# EAGLE library part IC_TR_ARRAY_8P_POSIN_SINK (library mylib_20130829)
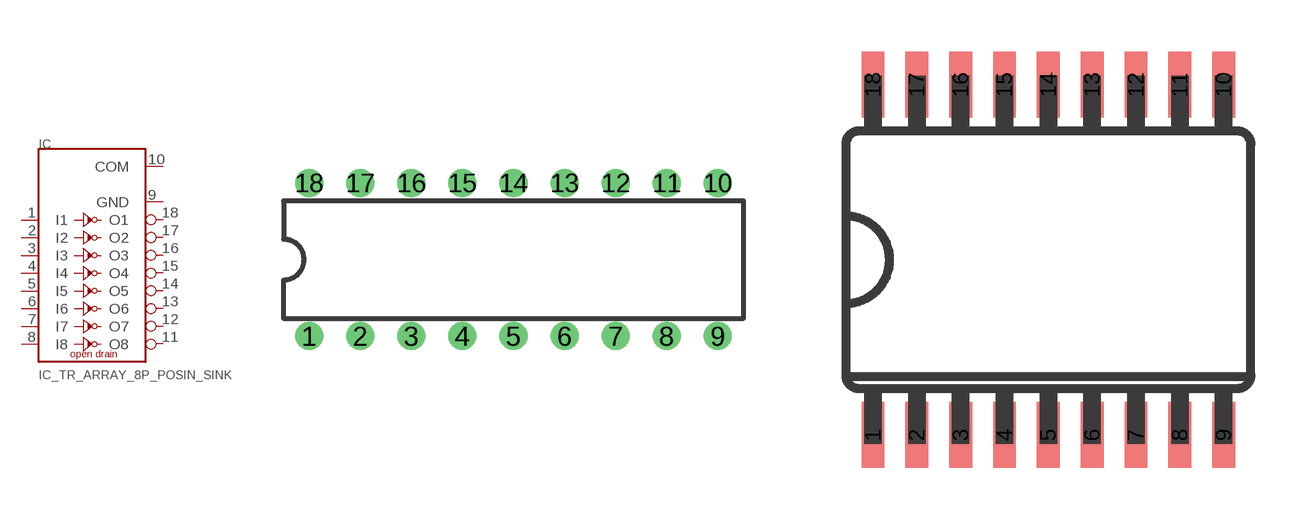
[diagram p29: symbol with the pads of IC_SOCKET_DIL_18; footprints IC_SOCKET_DIL_18, IC_18_1.27_300MIL]

Designator prefix IC

## IC_TR_ARRAY_8P_POSIN_SINKD  [IC_SOCKET_DIL_18]
1  I1
2  I2
3  I3
4  I4
5  I5
6  I6
7  I7
8  I8
9  GND  pwr
10  COM  pwr
11  O8
12  O7
13  O6
14  O5
15  O4
16  O3
17  O2
18  O1

## IC_TR_ARRAY_8P_POSIN_SINKSO  [IC_18_1.27_300MIL]
Pads as for IC_SOCKET_DIL_18

## Footprint IC_SOCKET_DIL_18 (pad centres in mm)
Dual In Line Package
drill 0.889: 1 -10.16,-3.81; 2 -7.62,-3.81; 3 -5.08,-3.81; 4 -2.54,-3.81; 5 0,-3.81; 6 2.54,-3.81; 7 5.08,-3.81; 8 7.62,-3.81; 9 10.16,-3.81; 10 10.16,3.81; 11 7.62,3.81; 12 5.08,3.81; 13 2.54,3.81; 14 0,3.81; 15 -2.54,3.81; 16 -5.08,3.81; 17 -7.62,3.81; 18 -10.16,3.81

## Footprint IC_18_1.27_300MIL (pad centres in mm)
smd 0.66 x 1.905: 1 -5.08,-5.08; 2 -3.81,-5.08; 3 -2.54,-5.08; 4 -1.27,-5.08; 5 0,-5.08; 6 1.27,-5.08; 7 2.54,-5.08; 8 3.81,-5.08; 9 5.08,-5.08; 10 5.08,5.08; 11 3.81,5.08; 12 2.54,5.08; 13 1.27,5.08; 14 0,5.08; 15 -1.27,5.08; 16 -2.54,5.08; 17 -3.81,5.08; 18 -5.08,5.08